# Altium schematic symbol library T5_Turn_Down_For_Watt.SchLib: 71 symbols (part 2 of 3)
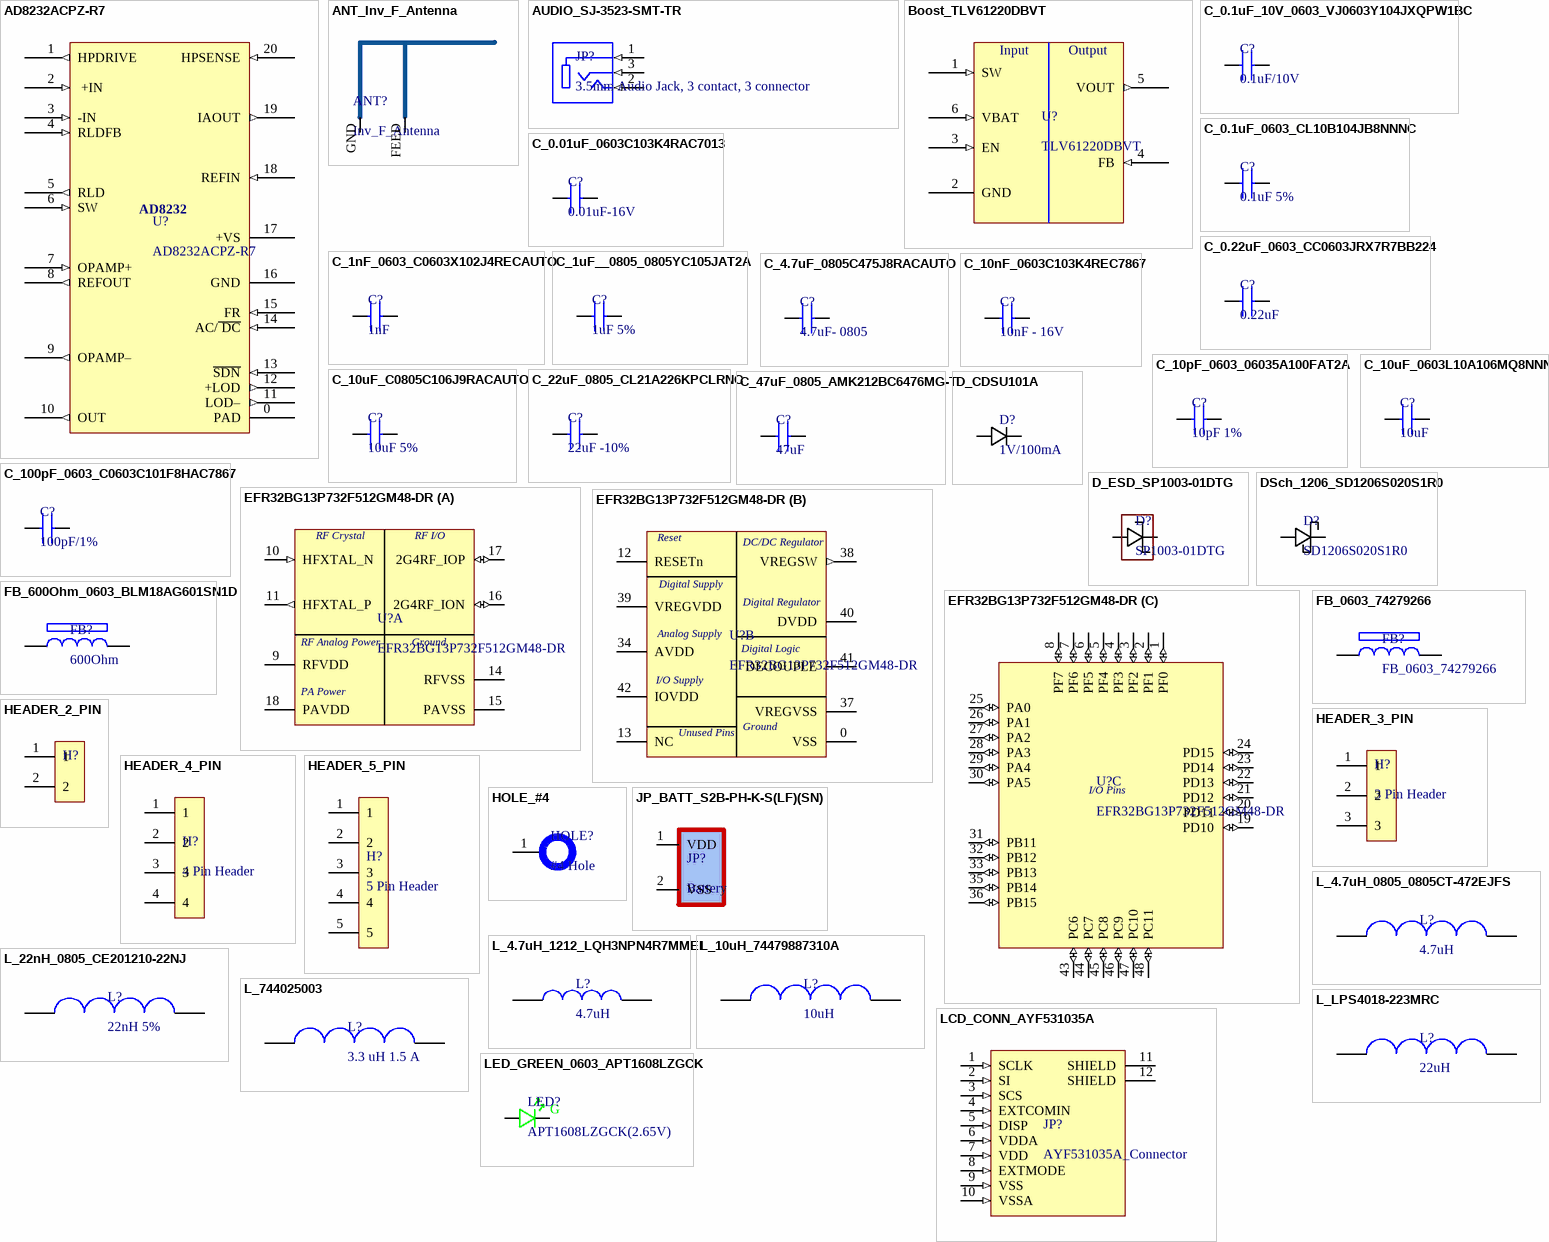
[diagram p2: symbols AD8232ACPZ-R7 to LED_GREEN_0603_APT1608LZGCK]

## L_22nH_0805_CE201210-22NJ
designator L?, comment 22nH 5%
Ind Chip Multi-Layer 22nH 5% 100MHz 23Q-Factor Ceramic 300mA 0805 T/R; Manufacturer: Bourns; Manufacturer Part Number: CE201210-22NJ; Self Resonant Frequency: 1.4GHz; Shielding: Unshielded; DC Resistance (DCR): 500mR; Q Factor: 23; Supplier 1: Digi-Key; RoHS: Yes; Category: Fixed Inductors; Stock 1: 21597; Pricing 1: 1=0.12000, 10=0.10400, 25=0.09200, 50=0.07820, 100=0.06910, 250=0.06332, 500=0.05756, 1000=0.04836 (USD); Mount: Surface Mount; Case/Package: 0805; Case Code (Metric): 2012; Case Code (Imperial): 0805; Core Material: Ceramic; Min Operating Temperature: -55°C; Max Operating Temperature: 125°C; Tolerance: 5%; Package Quantity: 4000; Packaging: Tape and Reel; Current Rating: 300mA; Inductance: 22nH; Max DC Current: 300mA; Termination: SMD/SMT; Test Frequency: 100MHz; Current: 300mA; Resistor Type: Ceramic; Series: CE201210; Length: 0.079inch; Width: 1.25mm; Height: 0.83mm; Height - Seated (Max): 0.041inch; Depth: 1.45mm; Radiation Hardening: No; RoHS Compliant: Yes; ComponentLink1URL: https://datasheet.ciiva.com/3083/ce201210-3083001.pdf?src-supplier=Avnet; ComponentLink1Description: https://datasheet.ciiva.com/3083/ce201210-3083001.pdf?src-supplier=Avnet; ComponentLink2URL: https://datasheet.ciiva.com/6703/ce201210-6703373.pdf?src-supplier=Digi-Key; ComponentLink2Description: https://datasheet.ciiva.com/6703/ce201210-6703373.pdf?src-supplier=Digi-Key; ComponentLink3URL: https://datasheet.ciiva.com/6703/ce201210-6703370.pdf?src-supplier=Digi-Key; ComponentLink3Description: https://datasheet.ciiva.com/6703/ce201210-6703370.pdf?src-supplier=Digi-Key; ComponentLink4URL: https://datasheet.ciiva.com/6703/ce201210-6703371.pdf?src-supplier=Digi-Key; ComponentLink4Description: https://datasheet.ciiva.com/6703/ce201210-6703371.pdf?src-supplier=Digi-Key
footprint CAP_0805_2mm (Chip Capacitor, 2-Leads, Body 2.00x1.25mm, IPC Medium Density)
pins: 1, 2

## L_744025003
designator L?, comment 3.3 uH 1.5 A
Power Choke Shielded Wirewound 3.3uH 20% 100KHz Ferrite 1.5A 101mOhm DCR T/R; Manufacturer: Wurth Electronics; Manufacturer Part Number: 744025003; Saturation Current: 1.8A; Self Resonant Frequency: 100MHz; DC Resistance (DCR): 101mR; Series Resistance: 85MR; Supplier 1: Digi-Key; RoHS: Yes; Category: Fixed Inductors; Stock 1: 411; Pricing 1: 1=1.64000, 10=1.57800, 50=1.45000, 100=1.20500, 250=1.08800 (USD); Mount: Surface Mount; Case/Package: Nonstandard; Number of Pins: 2; Core Material: Ferrite; Min Operating Temperature: -40°C; Max Operating Temperature: 125°C; Package Quantity: 1; Packaging: Cut Tape; Series: WE-TPC; Tolerance: 20%; Current Rating: 1.5A; Shielding: Shielded; Inductance Tolerance: 20%; Inductance: 3.3uH; Resistor Type: Wirewound; Test Frequency: 100kHz; Max DC Current: 1.5A; Termination: SMD/SMT; RMS Current (Irms): 1.5A; Length: 2.8mm; Width: 0.11inch; Height: 2.8mm; Height - Seated (Max): 0.118inch; Depth: 2.8mm; REACH SVHC: Unknown; RoHS Compliant: Yes; ComponentLink1URL: https://datasheet.ciiva.com/4954/744025003-88791-4954796.pdf?src-supplier=Mouser; ComponentLink1Description: https://datasheet.ciiva.com/4954/744025003-88791-4954796.pdf?src-supplier=Mouser; ComponentLink2URL: https://datasheet.ciiva.com/1060/744025003-1060566.pdf?src-supplier=Digi-Key; ComponentLink2Description: https://datasheet.ciiva.com/1060/744025003-1060566.pdf?src-supplier=Digi-Key; ComponentLink3URL: https://datasheet.ciiva.com/11803/0900766b80f886b5-11803594.pdf?src-supplier=RSComponents; ComponentLink3Description: https://datasheet.ciiva.com/11803/0900766b80f886b5-11803594.pdf?src-supplier=RSComponents; ComponentLink4URL: https://datasheet.ciiva.com/14123/744025003-eng-tds-14123829.pdf?src-supplier=Distrelec; ComponentLink4Description: https://datasheet.ciiva.com/14123/744025003-eng-tds-14123829.pdf?src-supplier=Distrelec; ComponentLink5URL: https://datasheet.ciiva.com/1060/744025003-1060567.pdf?src-supplier=Digi-Key; ComponentLink5Description: https://datasheet.ciiva.com/1060/744025003-1060567.pdf?src-supplier=Digi-Key; ComponentLink6URL: https://datasheet.ciiva.com/1060/744025003-1060568.pdf?src-supplier=Digi-Key; ComponentLink6Description: https://datasheet.ciiva.com/1060/744025003-1060568.pdf?src-supplier=Digi-Key
footprint IND_2828x30 (Precision Wire Wound Inductor, 2-Leads, Body 2.80x2.80mm, IPC Medium Density)
pins: 1, 2

## L_LPS4018-223MRC
designator L?, comment 22uH
Power inductor, shielded, 20/30% tol, SMT, RoHS, lead-free, halogen-free; Manufacturer: Coilcraft; Manufacturer Part Number: LPS4018-223MRC; Core Material: Ferrite; Tolerance: 20%; Max DC Current: 830mA; DC Resistance (DCR): 360mR; Self Resonant Frequency: 26MHz; Test Frequency: 100kHz; Supplier 1: Mouser; RoHS: No; Category: Fixed Inductors; Stock 1: 29130; Pricing 1: 1=1.16000, 10=1.09000, 50=1.09000, 100=1.09000, 1000=0.58900, 10000=0.54200 (USD); Case/Package: SMD/SMT; Weight: 0.003527oz; Min Operating Temperature: -40°C; Max Operating Temperature: 85°C; Shielding: Shielded; Termination: SMD/SMT; Packaging: Tape and Reel; Inductance: 22uH; Package Quantity: 1000; Length: 4mm; Width: 4mm; Height: 1.7mm; ComponentLink1URL: http://www.mouser.com/ds/2/597/lps4018-270702.pdf?src-supplier=Mouser; ComponentLink1Description: http://www.mouser.com/ds/2/597/lps4018-270702.pdf?src-supplier=Mouser
footprint IND_P2523X23N (FIXED IND 22UH 900MA 360MOHM SMD)
pins: 1, 2

## LCD_CONN_AYF531035A
designator JP?, comment AYF531035A_Connector
10 Position 0.5 mm Solder Right Angle FFC / FPC SMD Socket; Manufacturer: Panasonic; Actuator Material: Polymer,Liquid Crystal Polymer; Voltage Rating: 50V; Current Rating: 500mA; Number of Positions: 10; Pitch: 0.02inch; Supplier 1: Digi-Key; Manufacturer Part Number: AYF531035A; RoHS: Yes; Category: FFC / FPC; Stock 1: 14567; Pricing 1: 1=1.04000, 10=0.87800, 25=0.84240, 50=0.82440, 100=0.78850, 250=0.71680, 500=0.64512, 1000=0.57344, 2500=0.51968 (USD); Mount: Surface Mount; Contact Material: Copper Alloy; Contact Plating: Gold; Housing Material: Polymer; Min Operating Temperature: -55°C; Max Operating Temperature: 85°C; Package Quantity: 500; Packaging: Cut Strip; Termination: Solder; Lead Free: Lead Free; Flammability Rating: UL94 V-0; ComponentLink1URL: http://www.farnell.com/datasheets/2643915.pdf?src-supplier=Farnell; ComponentLink1Description: http://www.farnell.com/datasheets/2643915.pdf?src-supplier=Farnell; ComponentLink2URL: https://www3.panasonic.biz/ac/e_download/control/connector/fpc-ffc/catalog/con_eng_y5bw.pdf?src-supplier=Digi-Key; ComponentLink2Description: https://www3.panasonic.biz/ac/e_download/control/connector/fpc-ffc/catalog/con_eng_y5bw.pdf?src-supplier=Digi-Key; ComponentLink3URL: http://www3.panasonic.biz/ac/e_download/control/connector/fpc-ffc/catalog/con_eng_y5bw.pdf?src-supplier=Digi-Key; ComponentLink3Description: http://www3.panasonic.biz/ac/e_download/control/connector/fpc-ffc/catalog/con_eng_y5bw.pdf?src-supplier=Digi-Key; ComponentLink4URL: http://www.farnell.com/datasheets/2643915.pdf?src-supplier=Newark; ComponentLink4Description: http://www.farnell.com/datasheets/2643915.pdf?src-supplier=Newark
footprint PANASONIC_LCD_Connector
pins: 1 SCLK (in) "Serial clock signal", 2 SI (in) "Serial input signal", 3 SCS (in) "Chip select signal", 4 EXTCOMIN (in) "COM inversion polarity input pin", 5 DISP (in) "Display ON/OFF switching signal", 6 VDDA (in) "Power source for Analog", 7 VDD (in) "Power source for Logic", 8 EXTMODE (in) "COM inversion mode switch terminal", 9 VSS (in) "Logic ground", 10 VSSA (in) "Analogue ground", 11 SHIELD "Analogue ground", 12 SHIELD "Analogue ground"

## LED_GREEN_0603_APT1608LZGCK
designator LED?, comment APT1608LZGCK(2.65V)
Green 525nm LED Indication - Discrete 2.65V 0603 (1608 Metric); Manufacturer: Kingbright; Lens Color: Colorless; Lens Transparency: Clear; Luminous Intensity: 50mcd; Test Current: 2mA; Viewing Angle: 120°; Supplier 1: Digi-Key; Manufacturer Part Number: APT1608LZGCK; RoHS: Yes; Category: LEDs; Stock 1: 305863; Pricing 1: 1=0.57000, 10=0.37200, 100=0.24580, 1000=0.18979 (USD); Mount: Surface Mount; Case/Package: 0603; Color: Green; Case Code (Metric): 1608; Case Code (Imperial): 0603; Packaging: Cut Tape; Dominant Wavelength: 525nm; Forward Voltage: 2.65V; Length: 1.6mm; Width: 0.8mm; Height: 0.75mm; RoHS Compliant: Yes; ComponentLink1URL: http://www.mouser.com/ds/2/216/APT1608LZGCK-535830.pdf?src-supplier=Mouser; ComponentLink1Description: http://www.mouser.com/ds/2/216/APT1608LZGCK-535830.pdf?src-supplier=Mouser; ComponentLink2URL: http://www.kingbrightusa.com/images/catalog/SPEC/APT1608LZGCK.pdf?src-supplier=Digi-Key; ComponentLink2Description: http://www.kingbrightusa.com/images/catalog/SPEC/APT1608LZGCK.pdf?src-supplier=Digi-Key
footprint LED_0603_KINGBRIGHT (Chip Diode, 2-Leads, Body 1.60x0.80mm, IPC Medium Density)
pins: A, C
text: G

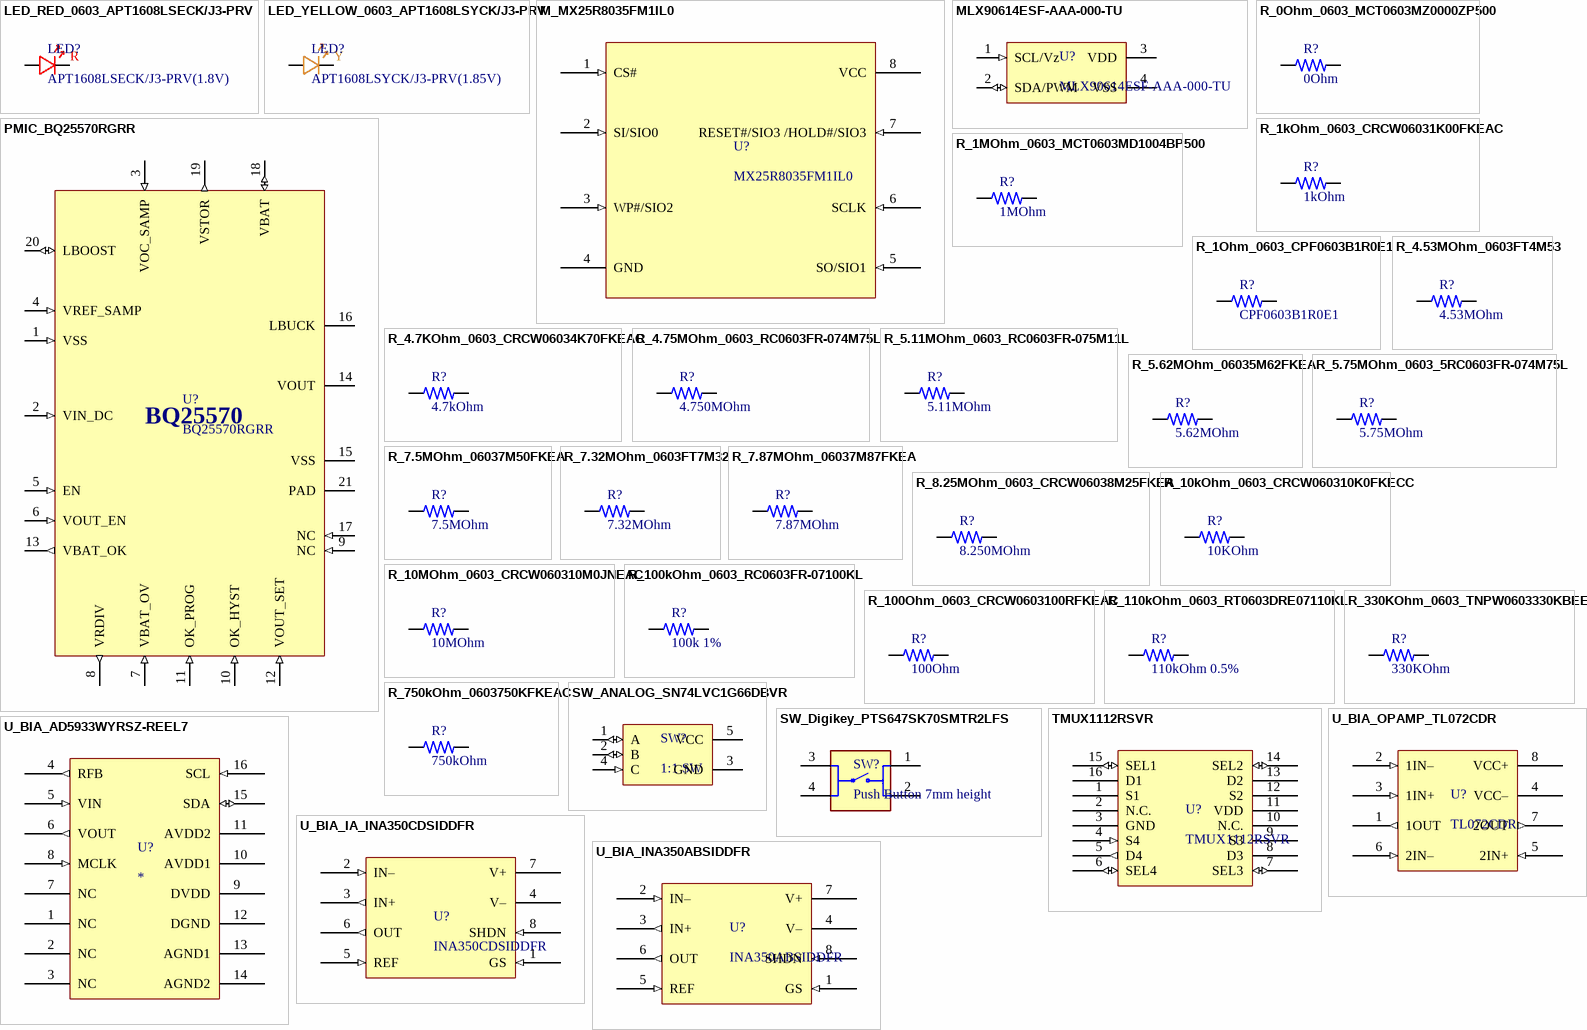
[diagram p1: symbols LED_RED_0603_APT1608LSECK/J3-PRV to U_BIA_OPAMP_TL072CDR]

## LED_RED_0603_APT1608LSECK/J3-PRV
designator LED?, comment APT1608LSECK/J3-PRV(1.8V)
1.8V FV,1.6X0.8mm Red Low Current SMD LED; Water Clear; 625nm; 120° Viewing Angle; Manufacturer: Kingbright; Lens Color: Colorless; Luminous Intensity: 40mcd; Test Current: 2mA; Supplier 1: Digi-Key; Manufacturer Part Number: APT1608LSECK/J3-PRV; RoHS: Yes; Category: LEDs; Stock 1: 64257; Pricing 1: 1=0.66000, 10=0.40400, 100=0.23220, 1000=0.18169 (USD); Mount: Surface Mount; Case/Package: 0603; Color: Red; Case Code (Metric): 1608; Case Code (Imperial): 0603; Packaging: Tape and Reel; Lens Transparency: Clear; Viewing Angle: 120°; Dominant Wavelength: 625nm; Forward Voltage: 1.8V; Length: 1.6mm; Width: 0.8mm; Height: 0.75mm; RoHS Compliant: Yes; ComponentLink1URL: http://www.mouser.com/ds/2/216/APT1608LSECK-J3-PRV-535661.pdf?src-supplier=Mouser; ComponentLink1Description: http://www.mouser.com/ds/2/216/APT1608LSECK-J3-PRV-535661.pdf?src-supplier=Mouser; ComponentLink2URL: http://www.kingbrightusa.com/images/catalog/SPEC/APT1608LSECK-J3-PRV.pdf?src-supplier=Digi-Key; ComponentLink2Description: http://www.kingbrightusa.com/images/catalog/SPEC/APT1608LSECK-J3-PRV.pdf?src-supplier=Digi-Key
footprint LED_0603_KINGBRIGHT (Chip Diode, 2-Leads, Body 1.60x0.80mm, IPC Medium Density)
pins: A, C
text: R

## LED_YELLOW_0603_APT1608LSYCK/J3-PRV
designator LED?, comment APT1608LSYCK/J3-PRV(1.85V)
1.85V FV,Standard LEDs - SMD 1.6X0.8MM LOW CRNT; Manufacturer: Kingbright; Color: Yellow; Lens Color: Colorless; Lens Transparency: Clear; Luminous Intensity: 25mcd; Test Current: 2mA; Viewing Angle: 120°; Dominant Wavelength: 590nm; Supplier 1: Digi-Key; Manufacturer Part Number: APT1608LSYCK/J3-PRV; RoHS: Yes; Category: LEDs; Stock 1: 29757; Pricing 1: 1=0.66000, 10=0.40400, 100=0.23220, 1000=0.18169 (USD); Mount: Surface Mount; Case/Package: 0603; Case Code (Metric): 1608; Case Code (Imperial): 0603; Packaging: Tape and Reel; Forward Voltage: 1.85V; Length: 1.6mm; Width: 0.8mm; Height: 0.75mm; RoHS Compliant: Yes; ComponentLink1URL: http://www.mouser.com/ds/2/216/APT1608LSYCK-J3-PRV-535668.pdf?src-supplier=Mouser; ComponentLink1Description: http://www.mouser.com/ds/2/216/APT1608LSYCK-J3-PRV-535668.pdf?src-supplier=Mouser; ComponentLink2URL: http://www.kingbrightusa.com/images/catalog/SPEC/APT1608LSYCK-J3-PRV.pdf?src-supplier=Digi-Key; ComponentLink2Description: http://www.kingbrightusa.com/images/catalog/SPEC/APT1608LSYCK-J3-PRV.pdf?src-supplier=Digi-Key
footprint LED_0603_KINGBRIGHT (Chip Diode, 2-Leads, Body 1.60x0.80mm, IPC Medium Density)
pins: A, C
text: Y

## M_MX25R8035FM1IL0
designator U?, comment MX25R8035FM1IL0
MX25R8035F Series 8 Mb (x 1/x 2/x 4) 3.6 V 33 MHz Flash Memory - SOP-8; Manufacturer: Macronix; Memory Type: Non-Volatile,FLASH; Memory Size: 8Mb; Frequency: 33MHz; Supplier 1: Digi-Key; Manufacturer Part Number: MX25R8035FM1IL0; RoHS: Yes; Category: Memory; Stock 1: 57914; Pricing 1: 1=0.63000, 10=0.57600, 25=0.56880, 50=0.56540, 100=0.50560, 250=0.50132, 500=0.49390, 1000=0.47624, 5000=0.43377 (USD); Mount: Surface Mount; Case/Package: SOIC; Min Operating Temperature: -40°C; Max Operating Temperature: 85°C; Packaging: Rail/Tube; Lead Free: Lead Free; RoHS Compliant: Yes; ComponentLink1URL: http://www.farnell.com/datasheets/2815330.pdf?src-supplier=Farnell; ComponentLink1Description: http://www.farnell.com/datasheets/2815330.pdf?src-supplier=Farnell; ComponentLink2URL: http://ckassoc.com/oldsite/pdf/Macronix_Product_Line_Card_July_2017_General%20_070617.pdf?src-supplier=Digi-Key; ComponentLink2Description: http://ckassoc.com/oldsite/pdf/Macronix_Product_Line_Card_July_2017_General%20_070617.pdf?src-supplier=Digi-Key; ComponentLink3URL: http://www.farnell.com/datasheets/2815330.pdf?src-supplier=Newark; ComponentLink3Description: http://www.farnell.com/datasheets/2815330.pdf?src-supplier=Newark
footprint FLASH_SOP127P600X175-8N (SOP, 8-Leads, Body 4.90x3.90mm, Pitch 1.27mm, IPC Medium Density)
pins: 1 CS# (in) "Chip Select", 2 SI/SIO0 (in) "Serial Data Input (for 1 x I/O)/ Serial Data Input & Output (for 4xI/O read mode)", 3 WP#/SIO2 (in) "Write Protection Active Low or Serial Data Input & Output (for 4xI/O read mode)", 4 GND "Ground", 5 SO/SIO1 (in) "Serial Data Output (for 1 x I/O)/ Serial Data Input & Output (for 4xI/O read mode)", 6 SCLK (in) "Clock Input", 7 RESET#/SIO3 /HOLD#/SIO3 (in) ""Hardware Reset Pin Active low or Serial Data Input & Output (for 4xI/O read mode)   To pause the device without / deselecting the device or Serial Data / Input & Output (for 4xI/O read mode)"", 8 VCC (power) "Power Supply"

## MLX90614ESF-AAA-000-TU
designator U?
Temp Sensor Digital Serial (2-Wire) 4-Pin TO-39; Manufacturer: Melexis; Max Output Current: 13.5mA; Operating Supply Voltage: 5.5V; Resolution: 16b; Output Type: PWM; Sensing Method: Infrared (IR); Supplier 1: Digi-Key; Manufacturer Part Number: MLX90614ESF-AAA-000-TU; RoHS: Yes; Category: Temperature and Humidity Sensors; Stock 1: 2092; Pricing 1: 1=21.43000, 5=20.99600, 10=17.49600, 25=16.18400, 55=15.74636, 110=13.55936, 440=12.68459 (USD); Case/Package: TO-39-4; Number of Pins: 4; Min Operating Temperature: -40°C; Max Operating Temperature: 85°C; Package Quantity: 55; Packaging: Tray; Lead Free: Lead Free; RoHS Compliant: Yes; ComponentLink1URL: http://www.mouser.com/ds/2/734/MLX90614-Datasheet-Melexis-953298.pdf?src-supplier=Mouser; ComponentLink1Description: http://www.mouser.com/ds/2/734/MLX90614-Datasheet-Melexis-953298.pdf?src-supplier=Mouser; ComponentLink2URL: https://www.melexis.com/-/media/files/documents/datasheets/mlx90614-datasheet-melexis.pdf?src-supplier=Digi-Key; ComponentLink2Description: https://www.melexis.com/-/media/files/documents/datasheets/mlx90614-datasheet-melexis.pdf?src-supplier=Digi-Key; ComponentLink3URL: http://www.melexis.com/Asset/IR-sensor-thermometer-MLX90614-Datasheet-DownloadLink-5152.aspx?src-supplier=Future+Electronics; ComponentLink3Description: http://www.melexis.com/Asset/IR-sensor-thermometer-MLX90614-Datasheet-DownloadLink-5152.aspx?src-supplier=Future+Electronics
footprint MLX90614ESF-4 (Temperature Sensor Digital, Infrared (IR) -40°C ~ 85°C 16 b TO-39)
pins: 1 SCL/Vz (in) "Serial clock input for 2 wire communications protocol.", 2 SDA/PWM (io) "In normal mode the measured object temperature is available at this pin Pulse Width Modulated.", 3 VDD (power) "External supply voltage.", 4 VSS "Ground. The metal can is also connected to this pin."

## PMIC_BQ25570RGRR
designator U?, comment BQ25570RGRR
Switching Battery Charger Li-Ion/Li-Pol/Supercapacitor 110mA 2.2V to 5.5V 20-Pin VQFN EP T/R; Manufacturer: Texas Instruments; Output Current: 100mA; Operating Supply Current: 488nA; Operating Supply Voltage: 4V; Switching Frequency: 1MHz; Supplier 1: Digi-Key; Manufacturer Part Number: BQ25570RGRR; RoHS: Yes; Category: Battery Management; Stock 1: 5316; Pricing 1: 1=7.46000, 10=6.73900, 25=6.42560, 100=5.57930, 250=5.32852, 500=4.85836, 1000=4.73120 (USD); Mount: Surface Mount; Case/Package: VQFN; Number of Pins: 20; Contact Plating: Gold; Min Operating Temperature: -40°C; Max Operating Temperature: 125°C; Package Quantity: 3000; Packaging: Tape and Reel; Lead Free: Lead Free; RoHS Compliant: Yes; ComponentLink1URL: https://datasheet.ciiva.com/29590/bq25570-29590060.pdf?src-supplier=Digi-Key; ComponentLink1Description: https://datasheet.ciiva.com/29590/bq25570-29590060.pdf?src-supplier=Digi-Key
footprint QFN127P600-8N (Energy Harvesting PMIC 20-VQFN (3.5x3.5))
pins: 1 VSS (in) "Power ground for the boost charger.", 2 VIN_DC (in) "DC voltage input from energy harvesting source. Connect at least a 4.7 μF capacitor as close as possible between this pin and pin 1.", 3 VOC_SAMP (in) "Sampling pin for MPPT network. Connect to VSTOR to sample at 80% of input source open circuit voltage. Connect to GND for 50% or connect to the mid-point of external resistor divider between VIN_DC and GND.", 4 VREF_SAMP (in) "Connect a 0.01-μF low-leakage capacitor from this pin to GND to store the voltage to which VIN_DC will be regulated. This voltage is provided by the MPPT sample circuit.", 5 EN (in) "Active low digital programming input for enabling/disabling the IC. Connect to GND to enable the IC.", 6 VOUT_EN (in) "Active high digital programming input for enabling/disabling the buck converter. Connect to VSTOR to enable the buck converter.", 7 VBAT_OV (in) "Connect to the mid-point of external resistor divider between VRDIV and GND for setting the VBAT overvoltage threshold.", 8 VRDIV (out) "Connect high side of resistor divider networks to this biasing voltage.", 9 NC (in) "Connect to ground using the IC's PowerPAD™.", 10 OK_HYST (in) "Connect to the mid-point of external resistor divider between VRDIV and GND for setting the VBAT_OK hystersis threshold. If not used connect this pin to GND.", 11 OK_PROG (in) "Connect to the mid-point of external resistor divider between VRDIV and GND for setting the VBAT_OK threshold. If not used connect this pin to GND.", 12 VOUT_SET (in) "Connect to the mid-point of external resistor divider between VRDIV and GND for setting the VOUT regulation set point.", 13 VBAT_OK (out) "Digital output for battery good indicator. Internally referenced to the VSTOR voltage. Leave floating if not used.", 14 VOUT (power) "Buck converter output. Connect at least 22 μF output capacitor between this pin and pin 15 (VSS).", 15 VSS "Power ground for the buck converter and analog/signal ground for the resistor dividers and VREF_SAMP capacitor.", 16 LBUCK (power) "Inductor connection for the buck converter switching node. Connect at least a 4.7 μH inductor between this pin and pin 14 (VOUT).", 17 NC (in) "Connect to ground using the IC's PowerPAD.", 18 VBAT (io) "Connect a rechargeable storage element with at least 100uF of equivalent capacitance between this pin and either VSS pin.", 19 VSTOR (out) "Connection for the output of the boost charger. Connect at least a 4.7 μF capacitor in parallel with a 0.1 μF capacitor as close as possible to between this pin and pin 1 (VSS).", 20 LBOOST (io) "Inductor connection for the boost charger switching node. Connect a 22 μH inductor between this pin and pin 2 (VIN_DC).", 21 PAD "Connection for the output of the boost charger. Connect at least a 4.7 μF capacitor in parallel with a 0.1 μF capacitor as close as possible to between this pin and pin 1 (VSS)."
text: BQ25570

## R_0Ohm_0603_MCT0603MZ0000ZP500
designator R?, comment 0Ohm
Fixed Resistor, Thin Film, 0.1W, 0ohm, Surface Mount, 0603; Manufacturer: Vishay BCcomponents; Manufacturer Part Number: MCT0603MZ0000ZP500; Resistance: 0mR; Max Power Dissipation: 125mW; Supplier 1: Digi-Key; RoHS: Yes; Category: Chip SMD Resistors; Stock 1: 4778; Pricing 1: 1=0.34000, 10=0.28900, 100=0.11290, 1000=0.04725, 2500=0.04331 (USD); Case/Package: 0603; Case Code (Imperial): 0603; Case Code (Metric): 1608; Min Operating Temperature: -55°C; Max Operating Temperature: 155°C; Resistor Type: Thin Film; Features: Automotive AEC-Q200,Anti-Sulfur; Packaging: Tape and Reel; Number of Terminations: 2; RoHS Compliant: Yes; ComponentLink1URL: http://www.vishay.com/docs/28760/mcat_pro.pdf?src-supplier=Digi-Key; ComponentLink1Description: http://www.vishay.com/docs/28760/mcat_pro.pdf?src-supplier=Digi-Key
footprint RES_0603_Vishay (Resistor 0603)
pins: 1, 2

## R_1kOhm_0603_CRCW06031K00FKEAC
designator R?, comment 1kOhm
Res Thick Film 0603 1K Ohm 1% 1/10W ±100ppm/°C Molded SMD Paper T/R; Manufacturer: Vishay; Manufacturer Part Number: CRCW06031K00FKEAC; Power Rating: 100mW; Resistance: 1kR; Supplier 1: Digi-Key; RoHS: Yes; Category: Chip SMD Resistors; Stock 1: 2126426; Pricing 1: 1=0.10000, 10=0.03400, 100=0.01390, 1000=0.00624, 2500=0.00542 (USD); Mount: Surface Mount; Case/Package: Molded; Contact Plating: Tin; Min Operating Temperature: -55°C; Max Operating Temperature: 155°C; Tolerance: 1%; Resistor Type: Thick Film; Termination: Wraparound; Temperature Coefficient: 100ppm/°C; Length: 1.55mm; Lead Free: Lead Free; RoHS Compliant: Yes; ComponentLink1URL: http://www.vishay.com/docs/28773/crcwce3.pdf?src-supplier=Digi-Key; ComponentLink1Description: http://www.vishay.com/docs/28773/crcwce3.pdf?src-supplier=Digi-Key
footprint RES_0603_Vishay (Resistor 0603)
pins: 1, 2

## R_1MOhm_0603_MCT0603MD1004BP500
designator R?, comment 1MOhm
Res, 1M, 0.125W, 0603, Thin Film;; Manufacturer: Vishay Dale; Manufacturer Part Number: MCT0603MD1004BP500; Supplier 1: Digi-Key; RoHS: Yes; Category: Chip SMD Resistors; Stock 1: 13755; Pricing 1: 1=0.68000, 10=0.48600, 100=0.25250, 1000=0.13598, 2500=0.13112 (USD)
footprint RES_0603_Vishay (Resistor 0603)
pins: 1, 2

## R_1Ohm_0603_CPF0603B1R0E1
designator R?, comment CPF0603B1R0E1
Res Thin Film 1Ohm 0.1% 63mW 25ppm/°C 2-Pin 0603 SMD T/R; Manufacturer: TE Connectivity / Neohm; Supplier 1: Digi-Key; Manufacturer Part Number: CPF0603B1R0E1; Category: Chip SMD Resistors; Stock 1: 41754; Pricing 1: 1=0.69000, 10=0.49000, 100=0.25450 (USD); ComponentLink1URL: https://sigma.octopart.com/140860433/technical_drawing/TE-Connectivity-CPF0603B1R0E1.pdf?src-supplier=TE+Connectivity; ComponentLink1Description: https://sigma.octopart.com/140860433/technical_drawing/TE-Connectivity-CPF0603B1R0E1.pdf?src-supplier=TE+Connectivity; ComponentLink2URL: https://datasheet.octopart.com/CPF0603B1R0E1-TE-Connectivity-datasheet-140860410.pdf?src-supplier=TE+Connectivity; ComponentLink2Description: https://datasheet.octopart.com/CPF0603B1R0E1-TE-Connectivity-datasheet-140860410.pdf?src-supplier=TE+Connectivity
footprint R_0603_TE_CONNECTIBITY (Chip Resistor, 2-Leads, Body 1.55x0.80mm, IPC Medium Density)
pins: 1, 2

## R_4.7KOhm_0603_CRCW06034K70FKEAC
designator R?, comment 4.7kOhm
Res Thick Film 0603 4.7K Ohm 1% 1/10W ±100ppm/°C Molded SMD Paper T/R; Manufacturer: Vishay Semiconductors; Manufacturer Part Number: CRCW06034K70FKEAC; Power Rating: 100mW; Resistance: 4.7kR; Supplier 1: Digi-Key; RoHS: Yes; Category: Chip SMD Resistors; Stock 1: 128283; Pricing 1: 1=0.10000, 10=0.03400, 100=0.01390, 1000=0.00624, 2500=0.00542 (USD); Mount: Surface Mount; Case/Package: Molded; Contact Plating: Tin; Min Operating Temperature: -55°C; Max Operating Temperature: 155°C; Resistor Type: Thick Film; Termination: Wraparound; Tolerance: 1%; Temperature Coefficient: 100ppm/°C; Length: 1.55mm; Lead Free: Lead Free; RoHS Compliant: Yes; ComponentLink1URL: http://www.vishay.com/docs/28773/crcwce3.pdf?src-supplier=Digi-Key; ComponentLink1Description: http://www.vishay.com/docs/28773/crcwce3.pdf?src-supplier=Digi-Key
footprint RES_0603_Vishay (Resistor 0603)
pins: 1, 2

## R_4.53MOhm_0603FT4M53
designator R?, comment 4.53MOhm
Res Thick Film 0603 4.53M Ohm 1% 1/10W ±200ppm/°C Molded SMD SMD Paper T/R; Manufacturer: Stackpole Electronics; Manufacturer Part Number: RMCF0603FT4M53; Resistance: 4.53MR; Max Power Dissipation: 100mW; Supplier 1: Digi-Key; RoHS: Yes; Category: Chip SMD Resistors; Stock 1: 4345; Pricing 1: 1=0.10000, 10=0.02300, 100=0.00940, 1000=0.00421, 2500=0.00366 (USD); Mount: Surface Mount; Case/Package: 0603; Contact Plating: Tin,Matte; Min Operating Temperature: -55°C; Max Operating Temperature: 155°C; Packaging: Tape and Reel; Tolerance: 1%; Resistor Type: Thick Film; Package Quantity: 5000; Number of Terminations: 2; Temperature Coefficient: 200ppm/°C; Features: Automotive AEC-Q200; Series: RMCF; Length: 0.061inch; Width: 0.031inch; Height: 0.022inch; Radiation Hardening: No; RoHS Compliant: Yes; ComponentLink1URL: https://www.seielect.com/catalog/sei-rmcf_rmcp.pdf?src-supplier=Digi-Key; ComponentLink1Description: https://www.seielect.com/catalog/sei-rmcf_rmcp.pdf?src-supplier=Digi-Key; ComponentLink2URL: https://www.seielect.com/catalog/SEI-Packaging.pdf?src-supplier=Digi-Key; ComponentLink2Description: https://www.seielect.com/catalog/SEI-Packaging.pdf?src-supplier=Digi-Key; ComponentLink3URL: https://www.seielect.com/catalog/SEI-RMCF_RMCP.pdf?src-supplier=Avnet; ComponentLink3Description: https://www.seielect.com/catalog/SEI-RMCF_RMCP.pdf?src-supplier=Avnet
footprint RES_0603_Vishay (Resistor 0603)
pins: 1, 2

## R_4.75MOhm_0603_RC0603FR-074M75L
designator R?, comment 4.750MOhm
Res Thick Film 0603 4.75M Ohm 1% 0.1W(1/10W) ±100ppm/C Pad SMD T/R; Manufacturer: Yageo; Manufacturer Part Number: RC0603FR-074M75L; Resistance: 4.75MR; Power Rating: 100mW; Voltage Rating: 75V; Temperature Coefficient: 100ppm/°C; Voltage Rating (DC): 50V; Supplier 1: Digi-Key; RoHS: Yes; Category: Chip SMD Resistors; Stock 1: 223320; Pricing 1: 1=0.10000, 10=0.02200, 100=0.00890, 1000=0.00402, 2500=0.00349 (USD); Case/Package: 0603; Case Code (Metric): 1608; Case Code (Imperial): 0603; Weight: 7.1E-05oz; Min Operating Temperature: -55°C; Max Operating Temperature: 155°C; Package Quantity: 1; Tolerance: 1%; Packaging: Tape and Reel; Resistor Type: Thick Film; Number of Terminations: 2; Termination: SMD/SMT; Max Power Dissipation: 100mW; Features: Moisture Resistant; Series: RC; Construction: Rectangular; Length: 1.6mm; Width: 0.031inch; Height: 0.022inch; Depth: 0.8mm; Military Standard: Not; Lead Free: Lead Free; RoHS Compliant: Yes; ComponentLink1URL: https://datasheet.ciiva.com/2455/pyu-r-int-thick-7-2455038.pdf?src-supplier=Digi-Key; ComponentLink1Description: https://datasheet.ciiva.com/2455/pyu-r-int-thick-7-2455038.pdf?src-supplier=Digi-Key; ComponentLink2URL: https://datasheet.ciiva.com/2455/pyu-r-int-thick-7-2455039.pdf?src-supplier=Digi-Key; ComponentLink2Description: https://datasheet.ciiva.com/2455/pyu-r-int-thick-7-2455039.pdf?src-supplier=Digi-Key; ComponentLink3URL: https://datasheet.ciiva.com/2455/pyu-r-int-thick-7-2455040.pdf?src-supplier=Digi-Key; ComponentLink3Description: https://datasheet.ciiva.com/2455/pyu-r-int-thick-7-2455040.pdf?src-supplier=Digi-Key
footprint RES_0603_Vishay (Resistor 0603)
pins: 1, 2

## R_5.11MOhm_0603_RC0603FR-075M11L
designator R?, comment 5.11MOhm
Res Thick Film 0603 5.11M Ohm 1% 1/10W ±100ppm/°C Molded SMD SMD Paper T/R; Manufacturer: Yageo; Manufacturer Part Number: RC0603FR-075M11L; Power Rating: 100mW; Resistance: 5.11MR; Voltage Rating: 50V; Supplier 1: Digi-Key; RoHS: Yes; Category: Chip SMD Resistors; Stock 1: 23679; Pricing 1: 1=0.10000, 10=0.02200, 100=0.00890, 1000=0.00402, 2500=0.00349 (USD); Case/Package: 0603; Case Code (Imperial): 0603; Case Code (Metric): 1608; Contact Plating: Tin,Matte; Min Operating Temperature: -55°C; Max Operating Temperature: 155°C; Packaging: Tape and Reel; Tolerance: 1%; Resistor Type: Thick Film; Termination: SMD/SMT; Number of Terminations: 2; Temperature Coefficient: 100ppm/°C; Max Power Dissipation: 100mW; Features: Moisture Resistant; Series: RC; Construction: Rectangular; Length: 1.6mm; Width: 0.8mm; Height: 0.022inch; Depth: 0.8mm; Radiation Hardening: No; Military Standard: Not; RoHS Compliant: Yes; ComponentLink1URL: http://www.mouser.com/catalog/specsheets/RC0603.pdf?src-supplier=Mouser; ComponentLink1Description: http://www.mouser.com/catalog/specsheets/RC0603.pdf?src-supplier=Mouser; ComponentLink2URL: http://www.yageo.com.tw/exep/pages/download/literatures/PYu-R_INT-thick_7.pdf?src-supplier=Digi-Key; ComponentLink2Description: http://www.yageo.com.tw/exep/pages/download/literatures/PYu-R_INT-thick_7.pdf?src-supplier=Digi-Key; ComponentLink3URL: http://www.yageo.com/documents/recent/PYu-RC_Group_51_RoHS_L_2.pdf?src-supplier=Avnet; ComponentLink3Description: http://www.yageo.com/documents/recent/PYu-RC_Group_51_RoHS_L_2.pdf?src-supplier=Avnet
footprint RES_0603_Vishay (Resistor 0603)
pins: 1, 2

## R_5.62MOhm_06035M62FKEA
designator R?, comment 5.62MOhm
Res Thick Film 0603 5.62M Ohm 1% 1/10W ±100ppm/°C Molded SMD SMD Paper T/R; Manufacturer: Vishay; Manufacturer Part Number: CRCW06035M62FKEA; Power Rating: 100mW; Voltage Rating: 75V; Resistance: 5.62MR; Supplier 1: Digi-Key; RoHS: Yes; Category: Chip SMD Resistors; Stock 1: 12686; Pricing 1: 1=0.10000, 10=0.03700, 100=0.01490, 1000=0.00670, 2500=0.00582 (USD); Case/Package: 0603; Number of Pins: 2; Weight: 7.1E-05oz; Case Code (Metric): 1608; Case Code (Imperial): 0603; Contact Plating: Tin; Min Operating Temperature: -55°C; Max Operating Temperature: 155°C; Tolerance: 1%; Packaging: Tape and Reel; Package Quantity: 10; Resistor Type: Thick Film; Number of Terminations: 2; Temperature Coefficient: 100ppm/°C; Max Power Dissipation: 100mW; Voltage Rating (DC): 75V; Features: Automotive AEC-Q200; Series: CRCW; Construction: Rectangular; Resistance Tolerance: 1%; Length: 1.55mm; Width: 0.033inch; Height: 0.02inch; Depth: 0.85mm; REACH SVHC: Unknown; Military Standard: Not; Lead Free: Lead Free; RoHS Compliant: Yes; ComponentLink1URL: https://datasheet.ciiva.com/2525/dcrcwe3-2525254.pdf?src-supplier=Digi-Key; ComponentLink1Description: https://datasheet.ciiva.com/2525/dcrcwe3-2525254.pdf?src-supplier=Digi-Key; ComponentLink2URL: https://datasheet.ciiva.com/2525/dcrcwe3-2525255.pdf?src-supplier=Digi-Key; ComponentLink2Description: https://datasheet.ciiva.com/2525/dcrcwe3-2525255.pdf?src-supplier=Digi-Key; ComponentLink3URL: https://datasheet.ciiva.com/2525/dcrcwe3-2525256.pdf?src-supplier=Digi-Key; ComponentLink3Description: https://datasheet.ciiva.com/2525/dcrcwe3-2525256.pdf?src-supplier=Digi-Key; ComponentLink4URL: https://datasheet.ciiva.com/9065/dcrcwe3-9065258.pdf?src-supplier=Avnet; ComponentLink4Description: https://datasheet.ciiva.com/9065/dcrcwe3-9065258.pdf?src-supplier=Avnet; ComponentLink5URL: https://datasheet.ciiva.com/5546/dcrcwe3-109170-5546746.pdf?src-supplier=Mouser; ComponentLink5Description: https://datasheet.ciiva.com/5546/dcrcwe3-109170-5546746.pdf?src-supplier=Mouser; ComponentLink6URL: https://datasheet.ciiva.com/7748/1697337-7748680.pdf?src-supplier=Element14; ComponentLink6Description: https://datasheet.ciiva.com/7748/1697337-7748680.pdf?src-supplier=Element14; ComponentLink7URL: https://datasheet.ciiva.com/22675/1700796-22675469.pdf?src-supplier=Element14; ComponentLink7Description: https://datasheet.ciiva.com/22675/1700796-22675469.pdf?src-supplier=Element14; ComponentLink8URL: https://datasheet.ciiva.com/22700/1697337-22700634.pdf?src-supplier=Element14; ComponentLink8Description: https://datasheet.ciiva.com/22700/1697337-22700634.pdf?src-supplier=Element14; ComponentLink9URL: https://datasheet.ciiva.com/22675/1700796-22675468.pdf?src-supplier=Element14; ComponentLink9Description: https://datasheet.ciiva.com/22675/1700796-22675468.pdf?src-supplier=Element14; ComponentLink10URL: https://datasheet.ciiva.com/7748/1697337-7748679.pdf?src-supplier=Element14; ComponentLink10Description: https://datasheet.ciiva.com/7748/1697337-7748679.pdf?src-supplier=Element14
footprint RES_0603_Vishay (Resistor 0603)
pins: 1, 2

## R_5.75MOhm_0603_5RC0603FR-074M75L
designator R?, comment 5.75MOhm
Res Thick Film 0603 4.75M Ohm 1% 0.1W(1/10W) ±100ppm/C Pad SMD T/R; Manufacturer: Yageo; Manufacturer Part Number: RC0603FR-074M75L; Resistance: 4.75MR; Power Rating: 100mW; Voltage Rating: 75V; Temperature Coefficient: 100ppm/°C; Voltage Rating (DC): 50V; Supplier 1: Digi-Key; RoHS: Yes; Category: Chip SMD Resistors; Stock 1: 223320; Pricing 1: 1=0.10000, 10=0.02200, 100=0.00890, 1000=0.00402, 2500=0.00349 (USD); Case/Package: 0603; Case Code (Metric): 1608; Case Code (Imperial): 0603; Weight: 7.1E-05oz; Min Operating Temperature: -55°C; Max Operating Temperature: 155°C; Package Quantity: 1; Tolerance: 1%; Packaging: Tape and Reel; Resistor Type: Thick Film; Number of Terminations: 2; Termination: SMD/SMT; Max Power Dissipation: 100mW; Features: Moisture Resistant; Series: RC; Construction: Rectangular; Length: 1.6mm; Width: 0.031inch; Height: 0.022inch; Depth: 0.8mm; Military Standard: Not; Lead Free: Lead Free; RoHS Compliant: Yes; ComponentLink1URL: https://datasheet.ciiva.com/2455/pyu-r-int-thick-7-2455038.pdf?src-supplier=Digi-Key; ComponentLink1Description: https://datasheet.ciiva.com/2455/pyu-r-int-thick-7-2455038.pdf?src-supplier=Digi-Key; ComponentLink2URL: https://datasheet.ciiva.com/2455/pyu-r-int-thick-7-2455039.pdf?src-supplier=Digi-Key; ComponentLink2Description: https://datasheet.ciiva.com/2455/pyu-r-int-thick-7-2455039.pdf?src-supplier=Digi-Key; ComponentLink3URL: https://datasheet.ciiva.com/2455/pyu-r-int-thick-7-2455040.pdf?src-supplier=Digi-Key; ComponentLink3Description: https://datasheet.ciiva.com/2455/pyu-r-int-thick-7-2455040.pdf?src-supplier=Digi-Key
footprint RES_0603_Vishay (Resistor 0603)
pins: 1, 2

## R_7.5MOhm_06037M50FKEA
designator R?, comment 7.5MOhm
Res Thick Film 0603 7.5M Ohm 1% 1/10W ±100ppm/°C Molded SMD SMD Paper T/R; Manufacturer: Vishay; Manufacturer Part Number: CRCW06037M50FKEA; Resistance: 7.5MR; Power Rating: 100mW; Voltage Rating: 75V; Supplier 1: Digi-Key; RoHS: Yes; Category: Chip SMD Resistors; Stock 1: 19465; Pricing 1: 1=0.10000, 10=0.03700, 100=0.01490, 1000=0.00670, 2500=0.00582 (USD); Case/Package: 0603; Number of Pins: 2; Weight: 7.1E-05oz; Case Code (Metric): 1608; Case Code (Imperial): 0603; Contact Plating: Tin; Min Operating Temperature: -55°C; Max Operating Temperature: 155°C; Resistor Type: Thick Film; Package Quantity: 10; Tolerance: 1%; Packaging: Tape and Reel; Number of Terminations: 2; Temperature Coefficient: 100ppm/°C; Termination: Solder; Max Power Dissipation: 100mW; Voltage Rating (DC): 75V; Features: Automotive AEC-Q200; Series: CRCW; Resistance Tolerance: 1%; Technology: THICK FILM; Construction: Rectangular; Length: 1.55mm; Width: 0.033inch; Height: 0.45mm; Depth: 0.85mm; REACH SVHC: Unknown; Military Standard: Not; Lead Free: Lead Free; RoHS Compliant: Yes; ComponentLink1URL: https://datasheet.ciiva.com/2494/dcrcwe3-2494735.pdf?src-supplier=Digi-Key; ComponentLink1Description: https://datasheet.ciiva.com/2494/dcrcwe3-2494735.pdf?src-supplier=Digi-Key; ComponentLink2URL: https://datasheet.ciiva.com/2494/dcrcwe3-2494736.pdf?src-supplier=Digi-Key; ComponentLink2Description: https://datasheet.ciiva.com/2494/dcrcwe3-2494736.pdf?src-supplier=Digi-Key; ComponentLink3URL: https://datasheet.ciiva.com/2494/dcrcwe3-2494737.pdf?src-supplier=Digi-Key; ComponentLink3Description: https://datasheet.ciiva.com/2494/dcrcwe3-2494737.pdf?src-supplier=Digi-Key; ComponentLink4URL: https://datasheet.ciiva.com/5552/dcrcwe3-109170-5552646.pdf?src-supplier=Mouser; ComponentLink4Description: https://datasheet.ciiva.com/5552/dcrcwe3-109170-5552646.pdf?src-supplier=Mouser; ComponentLink5URL: https://datasheet.ciiva.com/22869/70201119-22869559.pdf?src-supplier=Allied+Electronics; ComponentLink5Description: https://datasheet.ciiva.com/22869/70201119-22869559.pdf?src-supplier=Allied+Electronics; ComponentLink6URL: https://datasheet.ciiva.com/16784/70201119-16784828.pdf?src-supplier=Allied+Electronics; ComponentLink6Description: https://datasheet.ciiva.com/16784/70201119-16784828.pdf?src-supplier=Allied+Electronics; ComponentLink7URL: https://datasheet.ciiva.com/22704/1697337-22704015.pdf?src-supplier=Element14; ComponentLink7Description: https://datasheet.ciiva.com/22704/1697337-22704015.pdf?src-supplier=Element14
footprint RES_0603_Vishay (Resistor 0603)
pins: 1, 2

## R_7.32MOhm_0603FT7M32
designator R?, comment 7.32MOhm
Res Thick Film 0603 7.32M Ohm 1% 1/10W ±200ppm/°C Molded SMD SMD Paper T/R; Manufacturer: Stackpole Electronics; Manufacturer Part Number: RMCF0603FT7M32; Resistance: 7.32MR; Supplier 1: Digi-Key; RoHS: Yes; Category: Chip SMD Resistors; Stock 1: 1477; Pricing 1: 1=0.10000, 10=0.02300, 100=0.00940, 1000=0.00421, 2500=0.00366 (USD); Mount: Surface Mount; Case/Package: 0603; Contact Plating: Tin,Matte; Min Operating Temperature: -55°C; Max Operating Temperature: 155°C; Packaging: Tape and Reel; Tolerance: 1%; Resistor Type: Thick Film; Temperature Coefficient: 200ppm/°C; Radiation Hardening: No; RoHS Compliant: Yes; ComponentLink1URL: https://www.seielect.com/catalog/SEI-RMCF_RMCP.pdf?src-supplier=Avnet; ComponentLink1Description: https://www.seielect.com/catalog/SEI-RMCF_RMCP.pdf?src-supplier=Avnet; ComponentLink2URL: https://www.seielect.com/catalog/sei-rmcf_rmcp.pdf?src-supplier=Digi-Key; ComponentLink2Description: https://www.seielect.com/catalog/sei-rmcf_rmcp.pdf?src-supplier=Digi-Key
footprint RES_0603_Vishay (Resistor 0603)
pins: 1, 2

## R_7.87MOhm_06037M87FKEA
designator R?, comment 7.87MOhm
Res Thick Film 0603 7.87M Ohm 1% 1/10W ±100ppm/°C Molded SMD SMD Paper T/R; Manufacturer: Vishay; Manufacturer Part Number: CRCW06037M87FKEA; Resistance: 7.87MR; Power Rating: 100mW; Voltage Rating: 75V; Supplier 1: Digi-Key; RoHS: Yes; Category: Chip SMD Resistors; Stock 1: 12350; Pricing 1: 1=0.10000, 10=0.03700, 100=0.01490, 1000=0.00670, 2500=0.00582 (USD); Case/Package: 0603; Number of Pins: 2; Weight: 7.1E-05oz; Case Code (Metric): 1608; Case Code (Imperial): 0603; Contact Plating: Tin; Min Operating Temperature: -55°C; Max Operating Temperature: 155°C; Package Quantity: 10; Tolerance: 1%; Packaging: Tape and Reel; Resistor Type: Thick Film; Number of Terminations: 2; Termination: SMD/SMT; Max Power Dissipation: 100mW; Temperature Coefficient: 100ppm/°C; Voltage Rating (DC): 75V; Features: Automotive AEC-Q200; Series: CRCW; Resistance Tolerance: 1%; Construction: Rectangular; Length: 1.55mm; Width: 0.033inch; Height: 0.02inch; Depth: 0.85mm; REACH SVHC: Unknown; Military Standard: Not; Lead Free: Lead Free; RoHS Compliant: Yes; ComponentLink1URL: https://datasheet.ciiva.com/2465/dcrcwe3-2465840.pdf?src-supplier=Digi-Key; ComponentLink1Description: https://datasheet.ciiva.com/2465/dcrcwe3-2465840.pdf?src-supplier=Digi-Key; ComponentLink2URL: https://datasheet.ciiva.com/2465/dcrcwe3-2465841.pdf?src-supplier=Digi-Key; ComponentLink2Description: https://datasheet.ciiva.com/2465/dcrcwe3-2465841.pdf?src-supplier=Digi-Key; ComponentLink3URL: https://datasheet.ciiva.com/2465/dcrcwe3-2465842.pdf?src-supplier=Digi-Key; ComponentLink3Description: https://datasheet.ciiva.com/2465/dcrcwe3-2465842.pdf?src-supplier=Digi-Key; ComponentLink4URL: https://datasheet.ciiva.com/22700/1697337-22700637.pdf?src-supplier=Element14; ComponentLink4Description: https://datasheet.ciiva.com/22700/1697337-22700637.pdf?src-supplier=Element14; ComponentLink5URL: https://datasheet.ciiva.com/7748/1697337-7748711.pdf?src-supplier=Element14; ComponentLink5Description: https://datasheet.ciiva.com/7748/1697337-7748711.pdf?src-supplier=Element14; ComponentLink6URL: https://datasheet.ciiva.com/7748/1697337-7748712.pdf?src-supplier=Element14; ComponentLink6Description: https://datasheet.ciiva.com/7748/1697337-7748712.pdf?src-supplier=Element14
footprint RES_0603_Vishay (Resistor 0603)
pins: 1, 2

## R_8.25MOhm_0603_CRCW06038M25FKEA
designator R?, comment 8.250MOhm
Res Thick Film 0603 8.25M Ohm 1% 1/10W ±100ppm/°C Molded SMD SMD Paper T/R; Manufacturer: Vishay; Manufacturer Part Number: CRCW06038M25FKEA; Resistance: 8.25MR; Power Rating: 100mW; Voltage Rating: 75V; Supplier 1: Digi-Key; RoHS: Yes; Category: Chip SMD Resistors; Stock 1: 4681; Pricing 1: 1=0.10000, 10=0.03700, 100=0.01490, 1000=0.00670, 2500=0.00582 (USD); Case/Package: 0603; Weight: 7.1E-05oz; Case Code (Metric): 1608; Case Code (Imperial): 0603; Contact Plating: Tin; Min Operating Temperature: -55°C; Max Operating Temperature: 155°C; Tolerance: 1%; Packaging: Tape and Reel; Package Quantity: 10; Resistor Type: Thick Film; Number of Terminations: 2; Termination: SMD/SMT; Temperature Coefficient: 100ppm/°C; Max Power Dissipation: 100mW; Voltage Rating (DC): 75V; Features: Automotive AEC-Q200; Series: CRCW; Construction: Rectangular; Resistance Tolerance: 1%; Length: 1.55mm; Width: 0.033inch; Height: 0.02inch; Depth: 0.85mm; Radiation Hardening: No; REACH SVHC: Unknown; Military Standard: Not; Lead Free: Lead Free; RoHS Compliant: Yes; ComponentLink1URL: https://datasheet.ciiva.com/2513/dcrcwe3-2513731.pdf?src-supplier=Digi-Key; ComponentLink1Description: https://datasheet.ciiva.com/2513/dcrcwe3-2513731.pdf?src-supplier=Digi-Key; ComponentLink2URL: https://datasheet.ciiva.com/2513/dcrcwe3-2513732.pdf?src-supplier=Digi-Key; ComponentLink2Description: https://datasheet.ciiva.com/2513/dcrcwe3-2513732.pdf?src-supplier=Digi-Key; ComponentLink3URL: https://datasheet.ciiva.com/2513/dcrcwe3-2513733.pdf?src-supplier=Digi-Key; ComponentLink3Description: https://datasheet.ciiva.com/2513/dcrcwe3-2513733.pdf?src-supplier=Digi-Key; ComponentLink4URL: https://datasheet.ciiva.com/7748/1697337-7748717.pdf?src-supplier=Element14; ComponentLink4Description: https://datasheet.ciiva.com/7748/1697337-7748717.pdf?src-supplier=Element14; ComponentLink5URL: https://datasheet.ciiva.com/7748/1697337-7748718.pdf?src-supplier=Element14; ComponentLink5Description: https://datasheet.ciiva.com/7748/1697337-7748718.pdf?src-supplier=Element14
footprint RES_0603_Vishay (Resistor 0603)
pins: 1, 2

## R_10kOhm_0603_CRCW060310K0FKECC
designator R?, comment 10KOhm
Res Thick Film 0603 10K Ohm 1% 0.1W(1/10W) ±100ppm/C Pad SMD T/R; Manufacturer: Vishay; Manufacturer Part Number: CRCW060310K0FKECC; Resistance: 10kR; Max Power Dissipation: 100mW; Temperature Coefficient: 100ppm/°C; Supplier 1: Digi-Key; RoHS: Yes; Category: Chip SMD Resistors; Stock 1: 307152; Pricing 1: 1=0.10000, 10=0.03400, 100=0.01390, 1000=0.00624, 2500=0.00542, 5000=0.00447 (USD); Case/Package: 0603; Min Operating Temperature: -55°C; Max Operating Temperature: 155°C; Resistor Type: Thick Film; Packaging: Tape and Reel; Tolerance: 1%; Number of Terminations: 2; ComponentLink1URL: http://www.vishay.com/docs/28773/crcwce3.pdf?src-supplier=Digi-Key; ComponentLink1Description: http://www.vishay.com/docs/28773/crcwce3.pdf?src-supplier=Digi-Key
footprint RES_0603_Vishay (Resistor 0603)
pins: 1, 2

## R_10MOhm_0603_CRCW060310M0JNEAC
designator R?, comment 10MOhm
Res 10M Ohm 5% 1/10W 0603; Manufacturer: Vishay; Manufacturer Part Number: CRCW060310M0JNEAC; Supplier 1: Digi-Key; RoHS: Yes; Category: Chip SMD Resistors; Stock 1: 46144; Pricing 1: 1=0.10000, 10=0.02800, 100=0.01140, 1000=0.00510, 2500=0.00443 (USD)
footprint RES_0603_Vishay (Resistor 0603)
pins: 1, 2

## R_100kOhm_0603_RC0603FR-07100KL
designator R?, comment 100k 1%
RES SMD 100K OHM 1% 1/10W 0603; Manufacturer: Yageo; Manufacturer Part Number: RC0603FR-07100KL; Resistance: 100 kOhms; Power Rating: 100 mW; Voltage Rating: 50 V; Temperature Coefficient: 100 PPM / C; Supplier 1: Digi-Key; Supplier Part Number 1: 311-100KHRCT-ND; Stock 1: 13478446; Pricing 1: 1=0.1, 10=0.022, 100=0.009, 1000=0.0041, 2500=0.0035 (USD); Termination Style: SMD/SMT; Product: Thick Film Resistors General Purpose; Tolerance: 1 %; Case Code - in: 0603; Case Code - mm: 1608; Series: RC; Operating Temperature Range: - 55 C to + 155 C; Packaging: Reel; ComponentLink1URL: http://www.farnell.com/datasheets/2167052.pdf?src-supplier=Element14; ComponentLink1Description: http://www.farnell.com/datasheets/2167052.pdf?src-supplier=Element14; ComponentLink2URL: http://www.farnell.com/datasheets/1868787.pdf?src-supplier=Element14; ComponentLink2Description: http://www.farnell.com/datasheets/1868787.pdf?src-supplier=Element14; ComponentLink3URL: http://documents.rs-components.com/techlib://itc_doclist_GB.htm?stockno=5048940&src-supplier=RSComponents; ComponentLink3Description: http://documents.rs-components.com/techlib://itc_doclist_GB.htm?stockno=5048940&src-supplier=RSComponents; ComponentLink4URL: http://www.farnell.com/datasheets/443971.pdf?src-supplier=Element14; ComponentLink4Description: http://www.farnell.com/datasheets/443971.pdf?src-supplier=Element14
footprint RES_0603_Vishay (Resistor 0603)
pins: 1, 2

## R_100Ohm_0603_CRCW0603100RFKEAC
designator R?, comment 100Ohm
Res Thick Film 0603 100 Ohm 1% 1/10W ±100ppm/°C Molded SMD Paper T/R; Manufacturer: Vishay; Manufacturer Part Number: CRCW0603100RFKEAC; Power Rating: 100mW; Resistance: 100R; Supplier 1: Digi-Key; RoHS: Yes; Category: Chip SMD Resistors; Stock 1: 1617816; Pricing 1: 1=0.10000, 10=0.03400, 100=0.01390, 1000=0.00624, 2500=0.00542 (USD); Case/Package: 0603; Tolerance: 1%; Lead Free: Lead Free; RoHS Compliant: Yes; ComponentLink1URL: http://www.vishay.com/docs/28773/crcwce3.pdf?src-supplier=Digi-Key; ComponentLink1Description: http://www.vishay.com/docs/28773/crcwce3.pdf?src-supplier=Digi-Key
footprint RES_0603_Vishay (Resistor 0603)
pins: 1, 2

## R_110kOhm_0603_RT0603DRE07110KL
designator R?, comment 110kOhm 0.5%
Res Thin Film 0603 110K Ohm 0.5% 1/10W ±50ppm/°C Molded SMD Paper T/R; Manufacturer: Yageo; Manufacturer Part Number: RT0603DRE07110KL; Resistance: 110kR; Max Power Dissipation: 100mW; Voltage Rating (DC): 50V; Supplier 1: Digi-Key; RoHS: Yes; Category: Chip SMD Resistors; Stock 1: 24410; Pricing 1: 1=0.11000, 10=0.09600, 100=0.03700, 1000=0.01626, 2500=0.01404 (USD); Case/Package: 0603; Case Code (Metric): 1608; Case Code (Imperial): 0603; Min Operating Temperature: -55°C; Max Operating Temperature: 155°C; Package Quantity: 5000; Packaging: Tape and Reel; Tolerance: 0.5%; Resistor Type: Thin Film; Number of Terminations: 2; Temperature Coefficient: 50ppm/°C; Features: Moisture Resistant; Series: RT; Length: 0.063inch; Width: 0.031inch; Height: 0.022inch; Lead Free: Lead Free; ComponentLink1URL: https://datasheet.ciiva.com/2565/pyu-rt-1-to-0-05-rohs-l-5-2565944.pdf?src-supplier=Digi-Key; ComponentLink1Description: https://datasheet.ciiva.com/2565/pyu-rt-1-to-0-05-rohs-l-5-2565944.pdf?src-supplier=Digi-Key
footprint RES_0603_Vishay (Resistor 0603)
pins: 1, 2

## R_330KOhm_0603_TNPW0603330KBEEA
designator R?, comment 330KOhm
Res Thin Film 0603 330K Ohm 0.1% 1/8W ±25ppm/°C Molded SMD SMD Paper T/R; Manufacturer: Vishay Dale; Manufacturer Part Number: TNPW0603330KBEEA; Resistance: 330kR; Power Rating: 100mW; Voltage Rating: 75V; Max Power Dissipation: 125mW; Supplier 1: Digi-Key; RoHS: Yes; Category: Chip SMD Resistors; Stock 1: 8330; Pricing 1: 1=0.59000, 10=0.42000, 100=0.21840, 1000=0.11760, 2500=0.11340 (USD); Case/Package: 0603; Case Code (Metric): 1608; Case Code (Imperial): 0603; Contact Plating: Tin; Size Code: 0603; Min Operating Temperature: -55°C; Max Operating Temperature: 155°C; Package Quantity: 5000; Tolerance: 0.1%; Packaging: Tape and Reel; Resistor Type: Thin Film; Number of Terminations: 2; Termination: SMD/SMT; Temperature Coefficient: 25ppm/°C; Features: Moisture Resistant,Automotive AEC-Q200,Anti-Sulfur; Series: TNPW; Construction: Rectangular; Length: 1.6mm; Width: 0.033inch; Height: 0.022inch; Depth: 0.85mm; Radiation Hardening: No; Military Standard: Not; Lead Free: Lead Free; RoHS Compliant: Yes; ComponentLink1URL: https://datasheet.ciiva.com/8946/tnpw-e3-8946374.pdf?src-supplier=Avnet; ComponentLink1Description: https://datasheet.ciiva.com/8946/tnpw-e3-8946374.pdf?src-supplier=Avnet; ComponentLink2URL: https://datasheet.ciiva.com/2606/tnpw-e3-2606883.pdf?src-supplier=Digi-Key; ComponentLink2Description: https://datasheet.ciiva.com/2606/tnpw-e3-2606883.pdf?src-supplier=Digi-Key; ComponentLink3URL: https://datasheet.ciiva.com/16514/tnpw-e3-16514254.pdf?src-supplier=Future+Electronics; ComponentLink3Description: https://datasheet.ciiva.com/16514/tnpw-e3-16514254.pdf?src-supplier=Future+Electronics
footprint RES_0603_Vishay (Resistor 0603)
pins: 1, 2

## R_750kOhm_0603750KFKEAC
designator R?, comment 750kOhm
VISCRCW0603750KFKEAC Res Thick Film 0603; Manufacturer: Vishay; Supplier 1: Digi-Key; Manufacturer Part Number: CRCW0603750KFKEAC; RoHS: Yes; Category: Chip SMD Resistors; Stock 1: 97955; Pricing 1: 1=0.10000, 10=0.03400, 100=0.01390, 1000=0.00624, 2500=0.00542 (USD); RoHS Compliant: Yes; ComponentLink1URL: http://www.vishay.com/docs/28773/crcwce3.pdf?src-supplier=Digi-Key; ComponentLink1Description: http://www.vishay.com/docs/28773/crcwce3.pdf?src-supplier=Digi-Key
footprint RES_0603_Vishay (Resistor 0603)
pins: 1, 2